# EAGLE library part PI4ULS3V204 (library ICs)
Voltage Level Translator Bidirectional 4 Circuit 1 Channel 2Mbps, 24Mbps 14-TQFN (3.5x3.5)
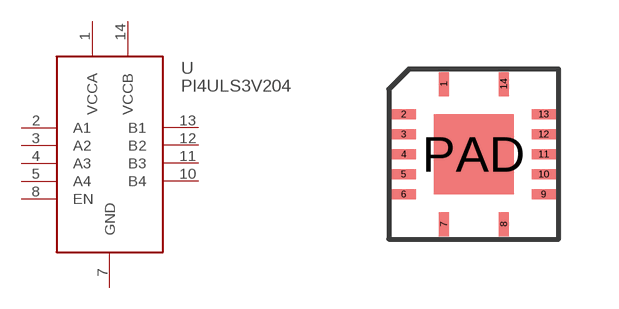
[diagram p289: symbol with the pads of TQFN14; footprint TQFN14]

Designator prefix U

## PI4ULS3V204 (DIGIKEY: PI4ULS3V204ZBEXDICT-ND; HEIGHT: 1; PRICE_PER: PI4ULS3V204ZBEXDICT-ND; VALUE: PI4ULS3V204ZBEX)  [TQFN14]
1  VCCA
2  A1
3  A2
4  A3
5  A4
7  GND
8  EN
10  B4
11  B3
12  B2
13  B1
14  VCCB

## Footprint TQFN14 (pad centres in mm)
smd 0.25 x 0.6: 1 -0.75,1.75; 7 -0.75,-1.75; 8 0.75,-1.75; 14 0.75,1.75
smd 0.6 x 0.25: 2 -1.75,1; 3 -1.75,0.5; 4 -1.75,0; 5 -1.75,-0.5; 6 -1.75,-1; 9 1.75,-1; 10 1.75,-0.5; 11 1.75,0; 12 1.75,0.5; 13 1.75,1
smd 2 x 2: PAD 0,0